# Altium schematic symbol library RGEF800.SchLib: 1 symbol
Pins are listed as number, name and electrical type; pins without a type are passive.

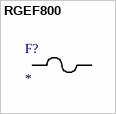
[diagram p0: symbol RGEF800]

## RGEF800
designator F?
Imported; Manufacturer_Part_Number: RGEF800; Vendor: TE Connectivity; Built_By: EMA_UL_Team; Type: DEV; C: Copyright (C) 2015 Accelerated Designs. All rights reserved; RefDes: RefDes; Value: Value
footprint FUS_RGEF800_TYCO
pins: 1, 2